# EAGLE library part HMC5883L (library rgb_cube)
Honeywell HMC5883L 12bit Magnetometer
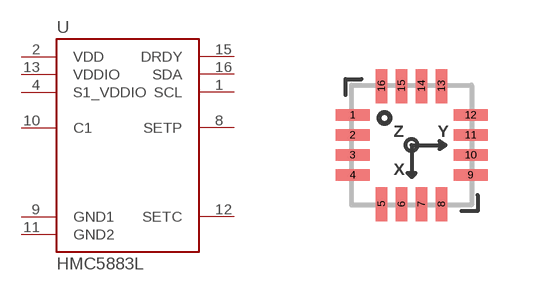
[diagram p31: symbol with the pads of HMC5883L-MAN; footprint HMC5883L-MAN]

Designator prefix -

## HMC5883L  [HMC5883L-MAN]
1  SCL
2  VDD
3  NC_P3  nc
4  S1_VDDIO
5  NC_P5  nc
6  NC_P6  nc
7  NC_P7  nc
8  SETP
9  GND1
10  C1
11  GND2
12  SETC
13  VDDIO
14  NC_P14  nc
15  DRDY
16  SDA

## Footprint HMC5883L-MAN (pad centres in mm)
smd 0.85 x 0.285: 1 -1.475,0.75; 2 -1.475,0.25; 3 -1.475,-0.25; 4 -1.475,-0.75; 9 1.475,-0.75; 10 1.475,-0.25; 11 1.475,0.25; 12 1.475,0.75
smd 0.285 x 0.85: 5 -0.75,-1.475; 6 -0.25,-1.475; 7 0.25,-1.475; 8 0.75,-1.475; 13 0.75,1.475; 14 0.25,1.475; 15 -0.25,1.475; 16 -0.75,1.475